# Altium footprint library Tu dien.PcbLib: 73 footprints (part 5 of 5)
Each footprint in its own frame and in the unit in brackets; x right, y up, seen from the top. Pads: shape width x height; smd on the part's side, far side on the other; paste and mask are expansions set on the pad; w line width, h text height; cw(c..) or ccw(c..) is an arc to the next point about the centre after c.
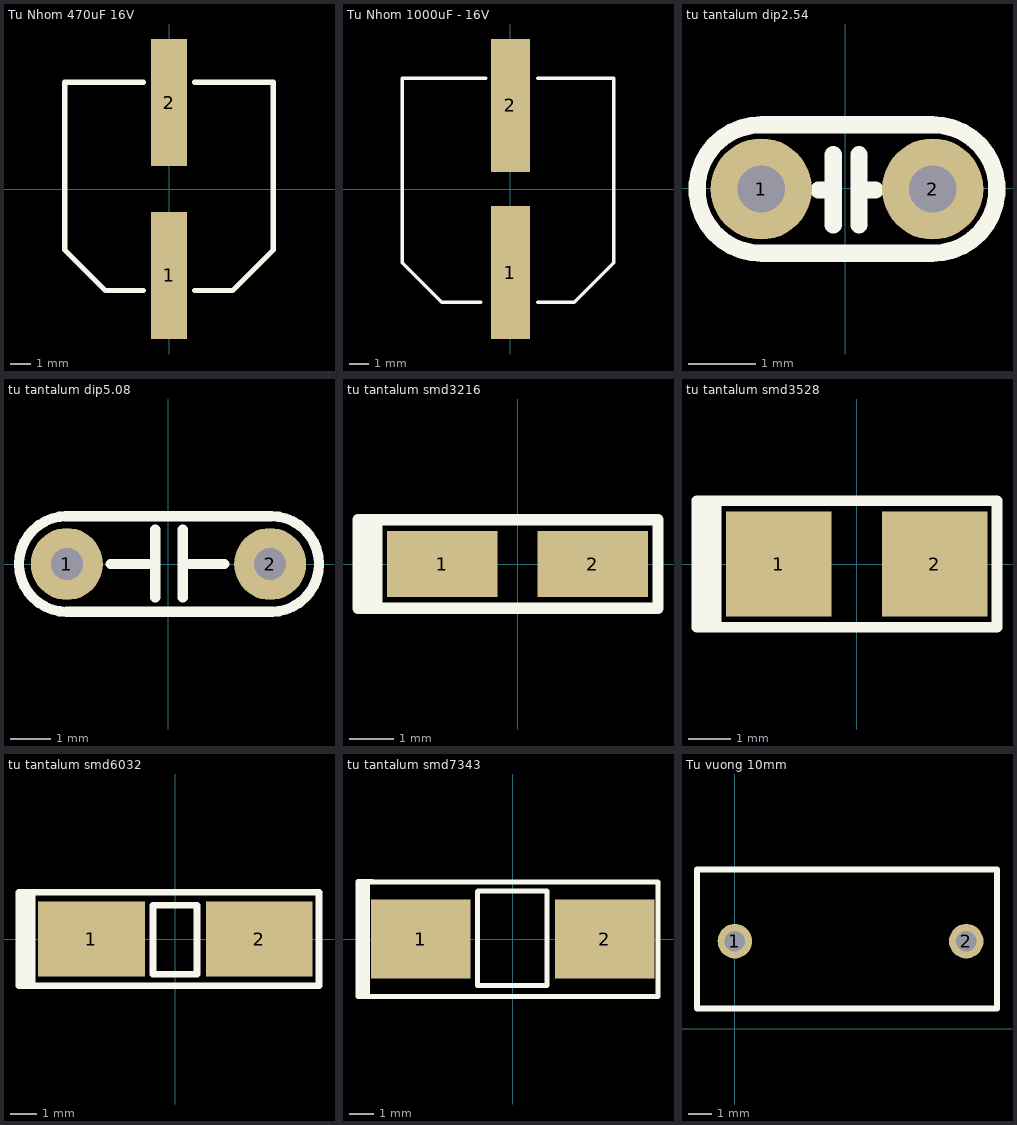
[diagram p4: the footprints below, top view; thin cyan lines are the x and y axes]

## Tu Nhom 470uF 16V [mil]
pads (2):
  rect 70x250 smd: 1(0,-170) 2(0,170)
Top Overlay:
  lines w10: -50,-200 -125,-200 -205,-120 -205,210 -50,210 ; 50,-200 125,-200 205,-120 205,210 50,210
3D body "Tu nhom 470uF 6,3V.step": height 316.06, standoff 3.03, extent -205,-216.53 200.51,216.53

## Tu Nhom 1000uF - 16V [mil]
pads (2):
  rect 80x270 smd: 1(0,-170) 2(0,170)
Top Overlay:
  lines w7: -60,-230 -140,-230 -220,-150 -220,225 -50,225 ; 55,-230 130,-230 210,-150 210,225 55,225
3D body "Tu nhom 180uF 16V.step": height 321.06, standoff 8.03, extent -204.17,-218.34 201.34,214.73

## tu tantalum dip2.54 [mm]
pads (2):
  round 1.5 hole 0.7: 1(-1.245,-0.013) 2(1.295,-0.013)
Top Overlay:
  lines w0.254: -0.394,-0.025 -0.178,-0.025 ; -0.178,-0.546 -0.178,0.495 ; 0.203,-0.546 0.203,0.495 ; 0.203,-0.025 0.445,-0.025 ; -1.232,-0.966 cw(c-1.245,-0.013) -1.232,0.94 1.282,0.94 cw(c1.295,-0.013) 1.282,-0.966 -1.232,-0.966
3D body "CAP_TANT_DIP2.54.step": height 11.02, standoff 0, extent -2.119,-2.184 2.261,2.2

## tu tantalum dip5.08 [mm]
pads (2):
  round 1.8 hole 0.8: 1(-2.54,0) 2(2.54,0)
Top Overlay:
  lines w0.254: -2.565,1.194 2.565,1.194 ; -2.541,-1.195 cw(c-2.54,0) -2.541,1.195 ; -2.489,-1.194 2.591,-1.194 ; -1.448,0 -0.406,0 ; -0.33,-0.838 -0.33,0.864 ; 0.356,-0.838 0.356,0.864 ; 0.356,0 1.397,0 ; 2.566,-1.195 ccw(c2.565,0) 2.566,1.195
3D body "TU_TATA_5.08.step": height 6.27, standoff -0.47, extent -2.819,-1.079 2.769,1.08

## tu tantalum smd3216 [mm]
pads (2):
  rect 2.5x1.5 smd: 1(-1.7,0) 2(1.7,0)
Top Overlay:
  lines w0.254: -3.607,-1 -3.607,1 ; -3.556,-1 3.175,-1 3.175,1 -3.556,1 ; -3.378,-1 -3.378,1 ; -3.175,-1 -3.175,1
3D body "CAP_TANT_3216-18.step": height 1.69, standoff -0.01, extent -1.7,-0.9 1.7,0.9

## tu tantalum smd3528 [mm]
pads (2):
  rect 2.5x2.5 smd: 1(-1.85,0) 2(1.85,0)
Top Overlay:
  lines w0.254: -3.785,-1.5 -3.785,1.5 ; -3.785,-1.499 -3.2,-1.499 ; -3.785,1.499 -3.251,1.499 ; -3.556,-1.5 -3.556,1.5 ; -3.327,-1.5 -3.327,1.5 3.327,1.5 3.327,-1.5 -3.327,-1.5
3D body "CAP_TANT_3528.step": height 2.03, standoff 0, extent -1.85,-1.465 1.85,1.465

## tu tantalum smd6032 [mm]
pads (2):
  rect 4x2.8 smd: 1(-3.15,0) 2(3.15,0)
Top Overlay:
  lines w0.254: -5.867,-1.753 -5.486,-1.753 ; -5.867,-1.75 -5.867,1.75 ; -5.867,1.753 -5.563,1.753 ; -5.613,-1.75 -5.613,1.75 ; -5.563,-1.75 5.385,-1.75 5.385,1.75 -5.563,1.75 ; -5.385,-1.75 -5.385,1.75 ; -0.838,-1.321 -0.838,1.27 0.813,1.27 0.813,-1.321 -0.838,-1.321
3D body "CAP_TANT_6032-28_y.step": height 2.79, standoff -0.01, extent -3.15,-1.75 3.15,1.75

## tu tantalum smd7343 [mm]
pads (2):
  rect 4x3.2 smd: 1(-3.7,0) 2(3.7,0)
Top Overlay:
  lines w0.2: -6.231,2.3 -6.231,-2.311 -5.85,-2.311 ; -6.223,2.311 -5.639,2.311 ; -1.422,1.905 -1.422,-1.88 1.372,-1.88 1.372,1.93 -1.397,1.93 ; -5.85,-2.311 -5.85,2.3 5.85,2.3 5.85,-2.311 -5.85,-2.311
  lines w0.25: -6.053,-2.3 -6.053,2.3
3D body "CAP_TANT_7343-40.step": height 3.99, standoff -0.01, extent -3.749,-2.325 3.851,2.275

## Tu vuong 10mm [mm] "Tu gom mini"
pads (2):
  round 1.5 hole 0.9: 1(0,3.81) 2(10.075,3.81)
Top Overlay:
  lines w0.254: -1.65,0.875 11.415,0.875 11.415,6.935 -1.65,6.935 -1.65,0.875